# EAGLE library part MOTADORA2013 (library motadora2011)
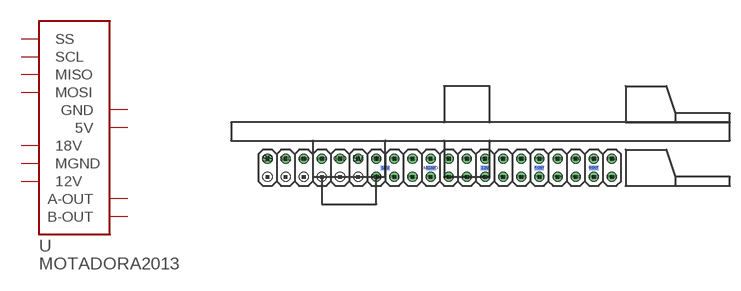
[diagram p1: symbol with the pads of MOTADORA2013; footprint MOTADORA2013]

Designator prefix -

## MOTADORA2013  [MOTADORA2013]
5V  5V  pwr
12V  12V  pwr
18V  18V  pwr
A-OUT  A-OUT  out
B-OUT  B-OUT  out
GND  GND  pwr
MGND  MGND  pwr
MISO  MISO  in
MOSI  MOSI  in
SCL  SCL  in
SS  SS  in

## Footprint MOTADORA2013 (pad centres in mm)
drill 0.8: 5V -10.16,2.54; GND -12.7,2.54; MISO -17.78,2.54; MOSI -15.24,2.54; P$8 -7.62,0; P$9 -7.62,2.54; P$10 -5.08,2.54; P$11 -5.08,0; P$12 -2.54,0; P$13 -2.54,2.54; P$14 0,2.54; P$15 0,0; P$16 2.54,0; P$17 2.54,2.54; P$18 5.08,2.54; P$19 7.62,2.54; P$20 7.62,0; P$21 5.08,0; P$22 10.16,0; P$23 10.16,2.54; P$24 12.7,2.54; P$25 12.7,0; P$26 15.24,2.54; P$27 15.24,0; P$28 17.78,0; P$29 17.78,2.54; P$30 20.32,2.54; P$31 20.32,0; P$32 22.86,0; P$33 22.86,2.54; P$34 25.4,2.54; P$35 25.4,0; SCL -20.32,2.54; SS -22.86,2.54
smd 1.27 x 0.635 bottom: 12V 7.62,1.27; 18V -6.35,1.27; A-OUT 15.24,1.27; B-OUT 22.86,1.27; MGND 0,1.27